# EAGLE library part 74HC237D-Q100J (library 74HC237D-Q100J)
None Check availability <https://pricing.snapeda.com/parts/74HC237D-Q100J/Nexperia%20USA%20Inc./view-part?ref=eda>
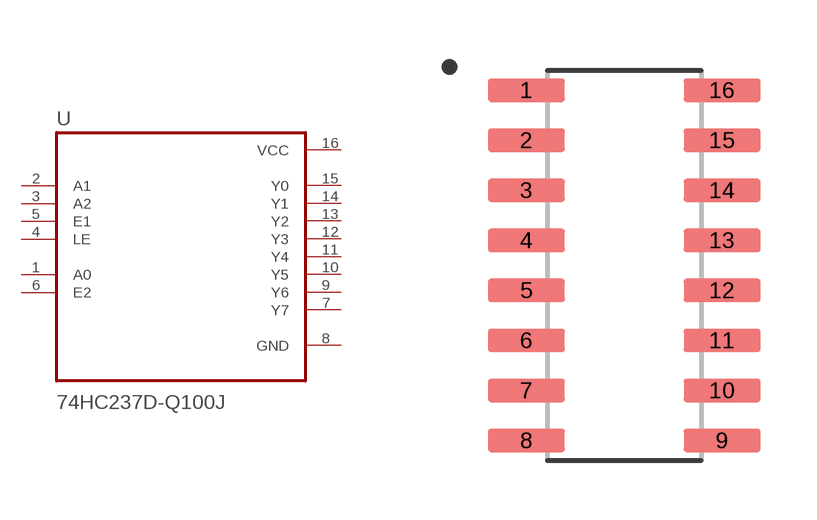
[diagram p0: symbol with the pads of SOIC127P600X175-16N; footprint SOIC127P600X175-16N]

Designator prefix U

## 74HC237D-Q100J (Availability: In Stock; Description: Decoder/Demultiplexer 1 x 3:8 16-SO; MF: Nexperia USA Inc.; MP: 74HC237D-Q100J; Package: SOIC-16 Nexperia USA; Price: None; Purchase-URL: https://pricing.snapeda.com/search/part/74HC237D-Q100J/?ref=eda)  [SOIC127P600X175-16N]
1  A0  in
2  A1  in
3  A2  in
4  LE  in
5  E1  in
6  E2  in
7  Y7  out
8  GND  pwr
9  Y6  out
10  Y5  out
11  Y4  out
12  Y3  out
13  Y2  out
14  Y1  out
15  Y0  out
16  VCC  pwr

## Footprint SOIC127P600X175-16N (pad centres in mm)
smd 1.95 x 0.59: 1 -2.48,4.445; 2 -2.48,3.175; 3 -2.48,1.905; 4 -2.48,0.635; 5 -2.48,-0.635; 6 -2.48,-1.905; 7 -2.48,-3.175; 8 -2.48,-4.445; 9 2.48,-4.445; 10 2.48,-3.175; 11 2.48,-1.905; 12 2.48,-0.635; 13 2.48,0.635; 14 2.48,1.905; 15 2.48,3.175; 16 2.48,4.445